# Altium schematic symbol library SLAB-EZR32LG330F55_6XG-QFN-64.SchLib: 1 symbol
Pins are listed as number, name and electrical type; pins without a type are passive.

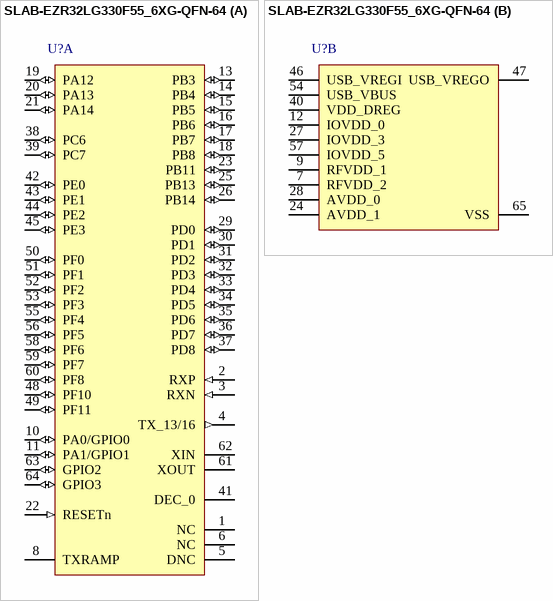
[diagram p0: symbol SLAB-EZR32LG330F55_6XG-QFN-64]

## SLAB-EZR32LG330F55_6XG-QFN-64
designator U?
part A pins: 1 NC "No connect.", 2 RXP (in) "Differential RF Input Pin of the LNA. See application schematic for example matching network.", 3 RXN (in) "Differential RF Input Pin of the LNA. See application schematic for example matching network.", 4 TX_13/16 (out) "Transmit Output Pin (+13 dBm or +16 dBm) for R55, R60, R61, R67 and R69 variants. The PA output is an open-drain connection, so the L-C match must supply VDD (+3.3 VDC nominal) to this pin. Pin is DNC on the +20 dBm parts.", 5 DNC "Transmit Output Pin (+20 dBm) for R63, R68 and R69 variants. The PA output is an open-drain connection,so the L-C match must supply VDD (+3.3 VDC nominal) to this pin. Pin is DNC on the +13 dBm parts.", 6 NC "No connect.", 8 TXRAMP "Programmable Bias Output with Ramp Capability for External FET PA.", 10 PA0/GPIO0 (io), 11 PA1/GPIO1 (io), 13 PB3 (io), 14 PB4 (io), 15 PB5 (io), 16 PB6 (io), 17 PB7 (io), 18 PB8 (io), 19 PA12 (io), 20 PA13 (io), 21 PA14 (io), 22 RESETn (in) "Reset input, active low.To apply an external reset source to this pin, it is required to only drive this pin low during reset, and let the internal pull-up ensure that reset is released.", 23 PB11 (io), 25 PB13 (io), 26 PB14 (io), 29 PD0 (io), 30 PD1 (io), 31 PD2 (io), 32 PD3 (io), 33 PD4 (io), 34 PD5 (io), 35 PD6 (io), 36 PD7 (io), 37 PD8 (io), 38 PC6 (io), 39 PC7 (io), 41 DEC_0 "Decouple output for on-chip voltage regulator.", 42 PE0 (io), 43 PE1 (io), 44 PE2 (io), 45 PE3 (io), 48 PF10 (io), 49 PF11 (io), 50 PF0 (io), 51 PF1 (io), 52 PF2 (io), 53 PF3 (io), 55 PF4 (io), 56 PF5 (io), 58 PF6 (io), 59 PF7 (io), 60 PF8 (io), 61 XOUT "EZRadio peripheral crystal oscillator output. Connect to an external 26/30 MHz crystal or to an external clock source. If using an external clock source with no crystal, dc coupling with a nominal 0.8 VDC level is recommended with a minimum ac amplitude of 700 mVpp. Refer to AN417 for more details about using an external clock source.", 62 XIN "EZRadio peripheral crystal oscillator input. Connect to an external 26/30 MHz crystal or leave floating if driving the XOUT pin with an external signal source.", 63 GPIO2 (io) "General Purpose Digital I/O for the radio. May be configured to perform various EZRadio functions, including Clock Output, FIFO Status, POR, Wake-up Timer, TRSW, AntDiversity control, etc.", 64 GPIO3 (io) "General Purpose Digital I/O for the radio. May be configured to perform various EZRadio functions, including Clock Output, FIFO Status, POR, Wake-up Timer, TRSW, AntDiversity control, etc."
part B pins: 7 RFVDD_2 (power) "+1.8 to +3.6 V Supply Voltage Input to Internal Regulators for the Radio. The recommended VDD supply voltage is +3.3 V.", 9 RFVDD_1 (power) "+1.8 to +3.6 V Supply Voltage Input to Internal Regulators for the Radio. The recommended VDD supply voltage is +3.3 V.", 12 IOVDD_0 (power) "Digital IO power supply 0.", 24 AVDD_1 (power) "Analog power supply 1.", 27 IOVDD_3 (power) "Digital IO power supply 3.", 28 AVDD_0 (power) "Analog power supply 0.", 40 VDD_DREG (power) "Power supply for on-chip voltage regulator.", 46 USB_VREGI (power), 47 USB_VREGO (power), 54 USB_VBUS (power) "USB 5.0 V VBUS input.", 57 IOVDD_5 (power) "Digital IO power supply 5.", 65 VSS (power) "Ground."